# EAGLE library part S6B (library jst)
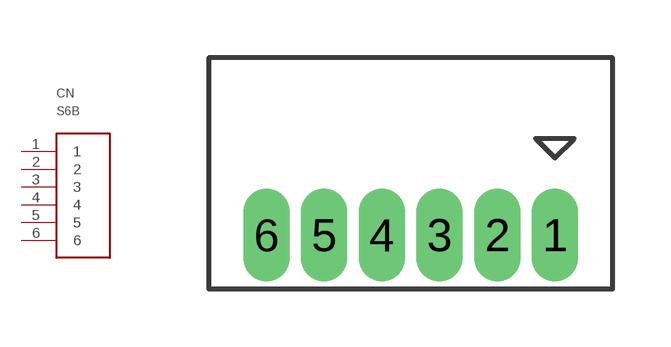
[diagram p0: symbol with the pads of S6B-ZR; footprint S6B-ZR]

Designator prefix CN

## S6B-ZR  [S6B-ZR]
1  1
2  2
3  3
4  4
5  5
6  6

## Footprint S6B-ZR (pad centres in mm)
drill 0.7 long: 1 7.5,0; 2 6,0; 3 4.5,0; 4 3,0; 5 1.5,0; 6 0,0